# Altium footprint library TSSOP-38.PcbLib: 1 footprints
Each footprint in its own frame and in the unit in brackets; x right, y up, seen from the top. Pads: shape width x height; smd on the part's side, far side on the other; paste and mask are expansions set on the pad; w line width, h text height; cw(c..) or ccw(c..) is an arc to the next point about the centre after c.
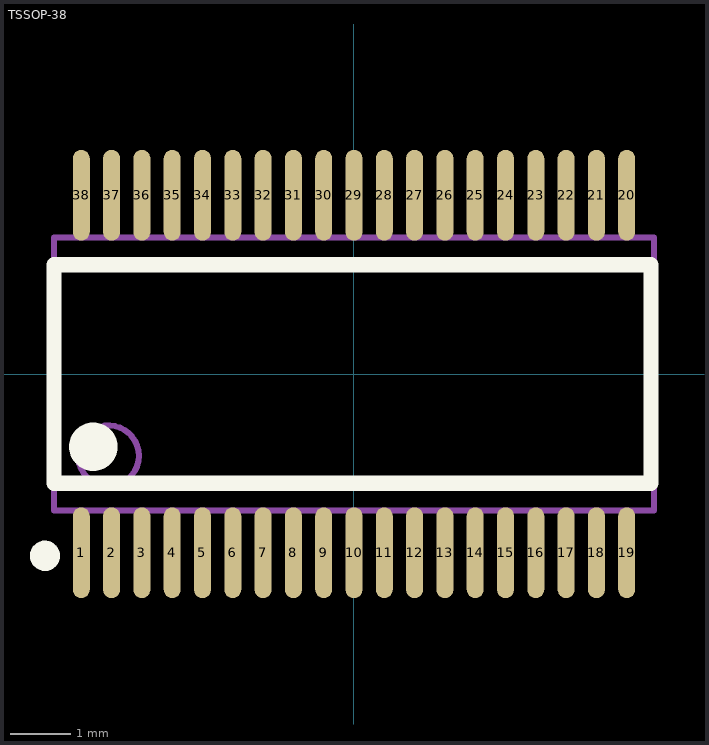
[diagram p0: the footprint, top view; thin cyan lines are the x and y axes]

## TSSOP-38 [mm]
pads (38):
  oval 0.28x1.5 smd mask+0.051: 1(-4.5,-2.95) 2(-4,-2.95) 3(-3.5,-2.95) 4(-3,-2.95) 5(-2.5,-2.95) 6(-2,-2.95) 7(-1.5,-2.95) 8(-1,-2.95) 9(-0.5,-2.95) 10(0,-2.95) 11(0.5,-2.95) 12(1,-2.95) 13(1.5,-2.95) 14(2,-2.95) 15(2.5,-2.95) 16(3,-2.95) 17(3.5,-2.95) 18(4,-2.95) 19(4.5,-2.95) 20(4.5,2.95) 21(4,2.95) 22(3.5,2.95) 23(3,2.95) 24(2.5,2.95) 25(2,2.95) 26(1.5,2.95) 27(1,2.95) 28(0.5,2.95) 29(0,2.95) 30(-0.5,2.95) 31(-1,2.95) 32(-1.5,2.95) 33(-2,2.95) 34(-2.5,2.95) 35(-3,2.95) 36(-3.5,2.95) 37(-4,2.95) 38(-4.5,2.95)
Top Overlay:
  circle w0.4: c-4.3,-1.2 r0.2
  circle w0.25: c-5.1,-3 r0.125
  lines w0.254: -4.95,-1.8 4.9,-1.8 4.9,1.8 -4.95,1.8 -4.95,-1.8
Mechanical 13:
  circle w0.1: c-4.05,-1.35 r0.5
  lines w0.1: -4.95,-2.25 4.95,-2.25 4.95,2.25 -4.95,2.25 -4.95,-2.25